# Altium footprint library CAN_Test_Runner.PcbLib: 34 footprints (part 1 of 3)
Each footprint in its own frame and in the unit in brackets; x right, y up, seen from the top. Pads: shape width x height; smd on the part's side, far side on the other; paste and mask are expansions set on the pad; w line width, h text height; cw(c..) or ccw(c..) is an arc to the next point about the centre after c.
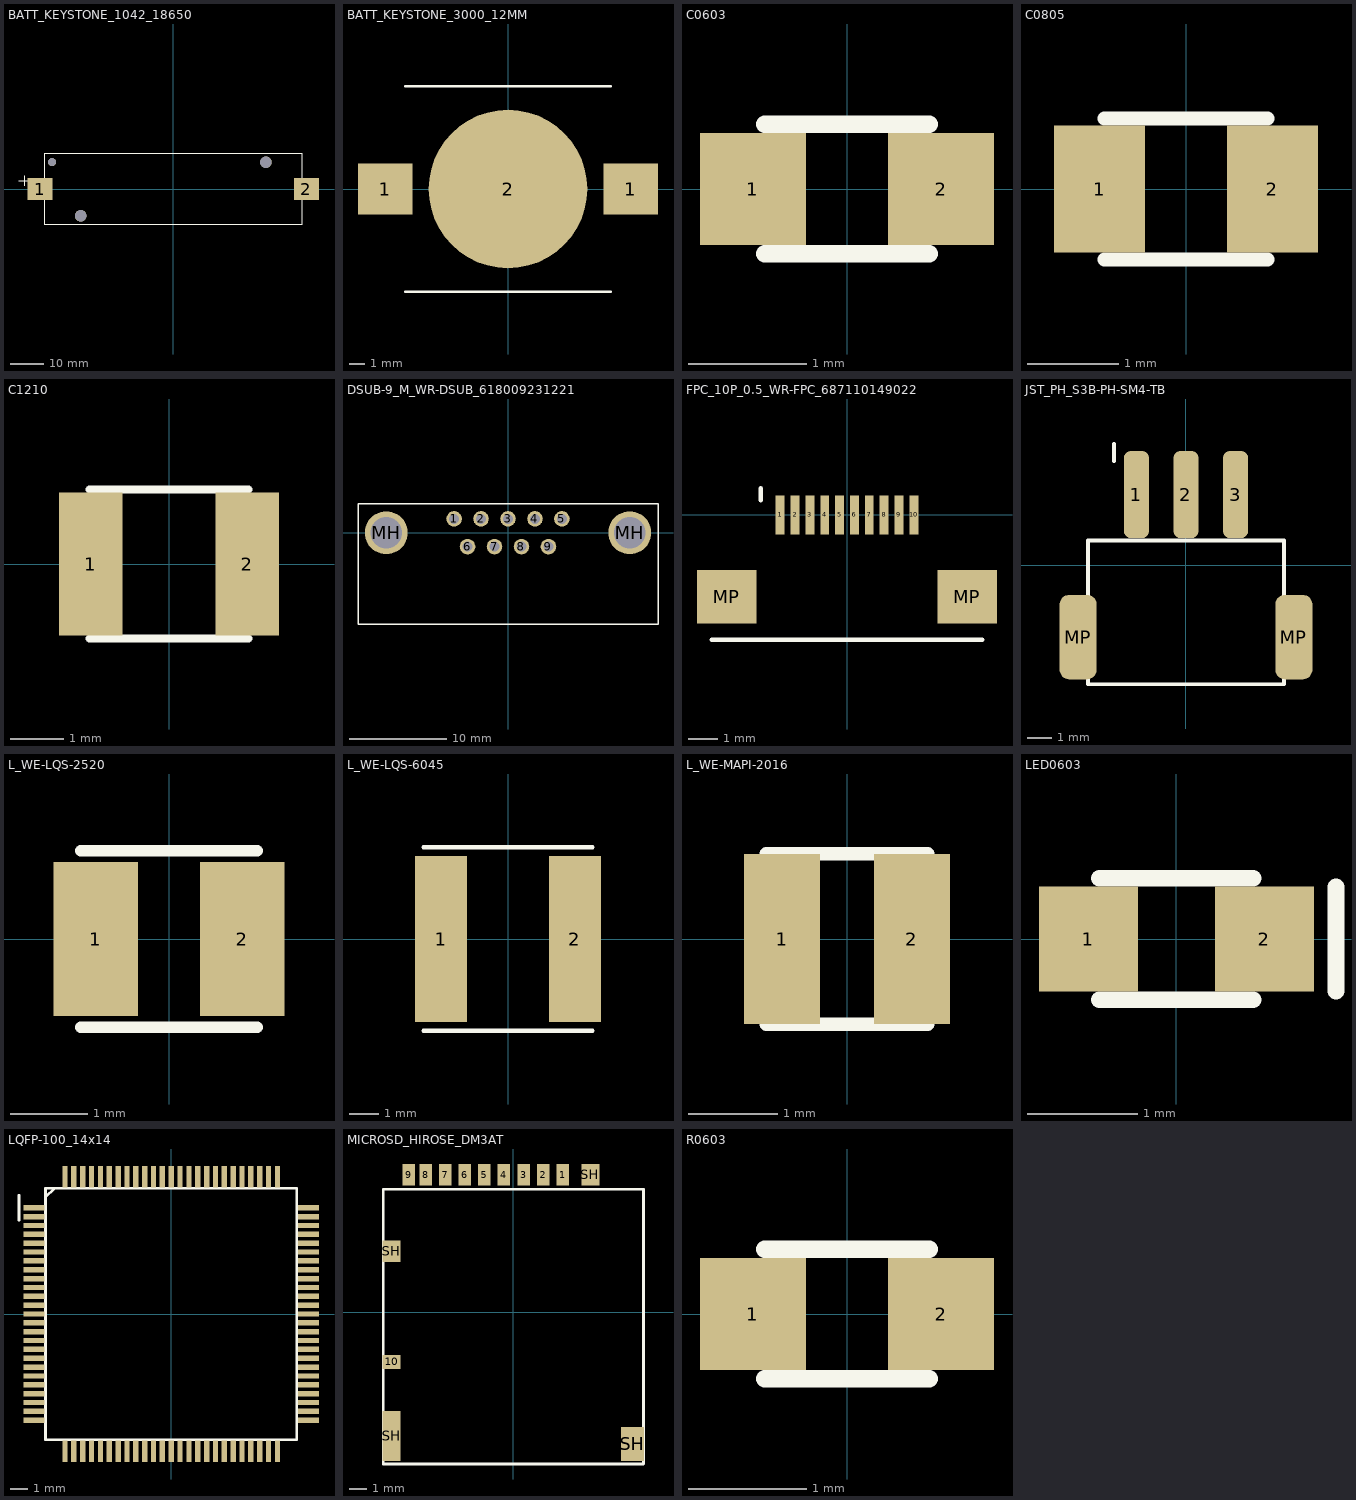
[diagram p0: the footprints below, top view; thin cyan lines are the x and y axes]

## BATT_KEYSTONE_1042_18650 [mm] "Keystone 1042 SMT 18650 holder"
height 20
pads (5):
  rect 7.5x6.5 smd: 1(-39.69,0) 2(39.69,0)
  round 2.39 hole 2.39 unplated: ""(-36.13,8)
  round 3.45 hole 3.45 unplated: ""(-27.62,-8) ""(27.62,8)
Top Overlay:
  lines w0.15: -46,2.5 -43,2.5 ; -44.5,1 -44.5,4 ; -38.5,-10.5 38.5,-10.5 38.5,10.5 -38.5,10.5 -38.5,-10.5

## BATT_KEYSTONE_3000_12MM [mm] "Keystone 3000 SMT CR1220 retainer"
height 3.2
pads (3):
  rect 3.5x3.3 smd: 1(-7.9,0) 1(7.9,0)
  round 10.2 smd: 2(0,0)
Top Overlay:
  lines w0.15: -6.6,-6.6 6.6,-6.6 ; -6.6,6.6 6.6,6.6

## C0603 [mm] "0603 capacitor, IPC-7351 nominal"
height 0.9
pads (2):
  rect 0.9x0.95 smd: 1(-0.8,0) 2(0.8,0)
Top Overlay:
  lines w0.15: -0.7,-0.55 0.7,-0.55 ; -0.7,0.55 0.7,0.55

## C0805 [mm] "0805 capacitor, IPC-7351 nominal"
height 1.25
pads (2):
  rect 1x1.4 smd: 1(-0.95,0) 2(0.95,0)
Top Overlay:
  lines w0.15: -0.9,-0.775 0.9,-0.775 ; -0.9,0.775 0.9,0.775

## C1210 [mm] "1210 capacitor, IPC-7351 nominal"
height 2.5
pads (2):
  rect 1.2x2.7 smd: 1(-1.475,0) 2(1.475,0)
Top Overlay:
  lines w0.15: -1.5,-1.4 1.5,-1.4 ; -1.5,1.4 1.5,1.4

## DSUB-9_M_WR-DSUB_618009231221 [mm] "Wurth WR-DSUB male angled 9 pin; board edge 8.0 mm below pin row 6-9"
height 12.55
pads (11):
  round 1.6 hole 1.04: 1(-5.54,1.42) 2(-2.77,1.42) 3(0,1.42) 4(2.77,1.42) 5(5.54,1.42) 6(-4.155,-1.42) 7(-1.385,-1.42) 8(1.385,-1.42) 9(4.155,-1.42)
  round 4.4 hole 3.2: MH(-12.5,0) MH(12.5,0)
Top Overlay:
  lines w0.15: -15.4,-9.42 15.4,-9.42 15.4,3 -15.4,3 -15.4,-9.42

## FPC_10P_0.5_WR-FPC_687110149022 [mm] "Wurth WR-FPC 0.5 mm, 10 pins, horizontal"
height 2.2
pads (12):
  rect 0.3x1.3 smd: 1(-2.25,0) 2(-1.75,0) 3(-1.25,0) 4(-0.75,0) 5(-0.25,0) 6(0.25,0) 7(0.75,0) 8(1.25,0) 9(1.75,0) 10(2.25,0)
  rect 2x1.8 smd: MP(-4.05,-2.75) MP(4.05,-2.75)
Top Overlay:
  lines w0.15: -4.55,-4.2 4.55,-4.2 ; -2.9,0.5 -2.9,0.9

## JST_PH_S3B-PH-SM4-TB [mm] "JST PH 2.0 mm, 3 pin, SMD side entry"
height 6
pads (5):
  rrect50% 1x3.5 smd: 1(-2,2.85) 2(0,2.85) 3(2,2.85)
  rrect50% 1.5x3.4 smd: MP(-4.35,-2.9) MP(4.35,-2.9)
Top Overlay:
  lines w0.15: -2.9,4.2 -2.9,4.9 ; -3.95,-4.8 3.95,-4.8 3.95,1 -3.95,1 -3.95,-4.8

## L_WE-LQS-2520 [mm] "Wurth WE-LQS 2520, 74404024022 land pattern"
height 1.2
pads (2):
  rect 1.1x2 smd: 1(-0.95,0) 2(0.95,0)
Top Overlay:
  lines w0.15: -1.15,-1.15 1.15,-1.15 ; -1.15,1.15 1.15,1.15

## L_WE-LQS-6045 [mm] "Wurth WE-LQS 6045, 74404064330 land pattern"
height 4.5
pads (2):
  rect 1.8x5.7 smd: 1(-2.3,0) 2(2.3,0)
Top Overlay:
  lines w0.15: -2.9,-3.15 2.9,-3.15 ; -2.9,3.15 2.9,3.15

## L_WE-MAPI-2016 [mm] "Wurth WE-MAPI 2016, 744383430047 land pattern"
height 1
pads (2):
  rect 0.85x1.9 smd: 1(-0.725,0) 2(0.725,0)
Top Overlay:
  lines w0.15: -0.9,-0.95 0.9,-0.95 ; -0.9,0.95 0.9,0.95

## LED0603 [mm] "0603 LED, pad 2 = cathode"
height 0.8
pads (2):
  rect 0.9x0.95 smd: 1(-0.8,0) 2(0.8,0)
Top Overlay:
  lines w0.15: -0.7,-0.55 0.7,-0.55 ; -0.7,0.55 0.7,0.55 ; 1.45,-0.475 1.45,0.475

## LQFP-100_14x14 [mm] "LQFP-100 14 x 14 mm, 0.5 mm pitch, ST DS14258 footprint example"
height 1.6
pads (100):
  rect 1.2x0.3 smd: 1(-7.75,6) 2(-7.75,5.5) 3(-7.75,5) 4(-7.75,4.5) 5(-7.75,4) 6(-7.75,3.5) 7(-7.75,3) 8(-7.75,2.5) 9(-7.75,2) 10(-7.75,1.5) 11(-7.75,1) 12(-7.75,0.5) 13(-7.75,0) 14(-7.75,-0.5) 15(-7.75,-1) 16(-7.75,-1.5) 17(-7.75,-2) 18(-7.75,-2.5) 19(-7.75,-3) 20(-7.75,-3.5) 21(-7.75,-4) 22(-7.75,-4.5) 23(-7.75,-5) 24(-7.75,-5.5) 25(-7.75,-6) 51(7.75,-6) 52(7.75,-5.5) 53(7.75,-5) 54(7.75,-4.5) 55(7.75,-4) 56(7.75,-3.5) 57(7.75,-3) 58(7.75,-2.5) 59(7.75,-2) 60(7.75,-1.5) 61(7.75,-1) 62(7.75,-0.5) 63(7.75,0) 64(7.75,0.5) 65(7.75,1) 66(7.75,1.5) 67(7.75,2) 68(7.75,2.5) 69(7.75,3) 70(7.75,3.5) 71(7.75,4) 72(7.75,4.5) 73(7.75,5) 74(7.75,5.5) 75(7.75,6)
  rect 0.3x1.2 smd: 26(-6,-7.75) 27(-5.5,-7.75) 28(-5,-7.75) 29(-4.5,-7.75) 30(-4,-7.75) 31(-3.5,-7.75) 32(-3,-7.75) 33(-2.5,-7.75) 34(-2,-7.75) 35(-1.5,-7.75) 36(-1,-7.75) 37(-0.5,-7.75) 38(0,-7.75) 39(0.5,-7.75) 40(1,-7.75) 41(1.5,-7.75) 42(2,-7.75) 43(2.5,-7.75) 44(3,-7.75) 45(3.5,-7.75) 46(4,-7.75) 47(4.5,-7.75) 48(5,-7.75) 49(5.5,-7.75) 50(6,-7.75) 76(6,7.75) 77(5.5,7.75) 78(5,7.75) 79(4.5,7.75) 80(4,7.75) 81(3.5,7.75) 82(3,7.75) 83(2.5,7.75) 84(2,7.75) 85(1.5,7.75) 86(1,7.75) 87(0.5,7.75) 88(0,7.75) 89(-0.5,7.75) 90(-1,7.75) 91(-1.5,7.75) 92(-2,7.75) 93(-2.5,7.75) 94(-3,7.75) 95(-3.5,7.75) 96(-4,7.75) 97(-4.5,7.75) 98(-5,7.75) 99(-5.5,7.75) 100(-6,7.75)
Top Overlay:
  lines w0.15: -8.6,5.3 -8.6,6.7 ; -7.1,6.6 -6.6,7.1 ; -7.1,-7.1 7.1,-7.1 7.1,7.1 -7.1,7.1 -7.1,-7.1

## MICROSD_HIROSE_DM3AT [mm] "Hirose DM3AT-SF-PEJM5 microSD push-push with card detect"
height 1.9
pads (14):
  rect 0.7x1.2 smd: 1(2.775,7.725) 2(1.675,7.725) 3(0.575,7.725) 4(-0.525,7.725) 5(-1.625,7.725) 6(-2.725,7.725) 7(-3.825,7.725) 8(-4.925,7.725) 9(-5.875,7.725)
  rect 1x0.8 smd: 10(-6.825,-2.775)
  rect 1x2.8 smd: SH(-6.825,-6.925)
  rect 1x1.2 smd: SH(-6.825,3.425) SH(4.325,7.725)
  rect 1.3x1.9 smd: SH(6.675,-7.375)
Top Overlay:
  lines w0.15: -7.3,-8.5 7.3,-8.5 7.3,6.9 -7.3,6.9 -7.3,-8.5

## PCBComponent_1 [mm]

## R0603 [mm] "0603 resistor, IPC-7351 nominal"
height 0.5
pads (2):
  rect 0.9x0.95 smd: 1(-0.8,0) 2(0.8,0)
Top Overlay:
  lines w0.15: -0.7,-0.55 0.7,-0.55 ; -0.7,0.55 0.7,0.55